# EAGLE library part CD4543B (library diadzine)
BCD-to-Seven-Segment Latch/Decoder/Driver for Liquid-Crystal display
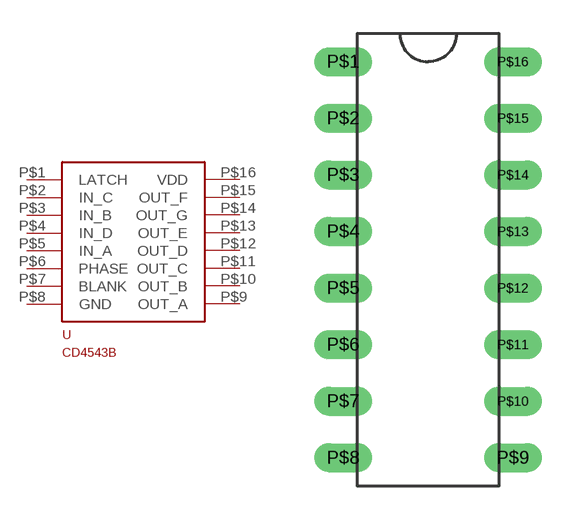
[diagram p0: symbol with the pads of DIL16; footprint DIL16]

Designator prefix -

## CD4543BE  [DIL16]
P$1  LATCH
P$2  IN_C
P$3  IN_B
P$4  IN_D
P$5  IN_A
P$6  PHASE
P$7  BLANK
P$8  GND
P$9  OUT_A
P$10  OUT_B
P$11  OUT_C
P$12  OUT_D
P$13  OUT_E
P$14  OUT_G
P$15  OUT_F
P$16  VDD

## Footprint DIL16 (pad centres in mm)
Dual In Line Package
drill 0.8 long: P$1 0,0; P$2 0,-2.54; P$3 0,-5.08; P$4 0,-7.62; P$5 0,-10.16; P$6 0,-12.7; P$7 0,-15.24; P$8 0,-17.78; P$9 7.62,-17.78; P$10 7.62,-15.24; P$11 7.62,-12.7; P$12 7.62,-10.16; P$13 7.62,-7.62; P$14 7.62,-5.08; P$15 7.62,-2.54; P$16 7.62,0